# Altium schematic symbol library SW-TACT-2PIN.SchLib: 1 symbol
Pins are listed as number, name and electrical type; pins without a type are passive.

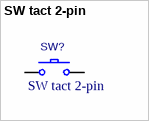
[diagram p0: symbol SW tact 2-pin]

## SW tact 2-pin
designator SW?
Microswitches, DTSMB-3 series; Value: SW tact 2-pin
footprint TACTM-34N-F
pins: 1, 2